# Altium footprint library WE-LHMI_1040.PcbLib: 1 footprints
Each footprint in its own frame and in the unit in brackets; x right, y up, seen from the top. Pads: shape width x height; smd on the part's side, far side on the other; paste and mask are expansions set on the pad; w line width, h text height; cw(c..) or ccw(c..) is an arc to the next point about the centre after c.
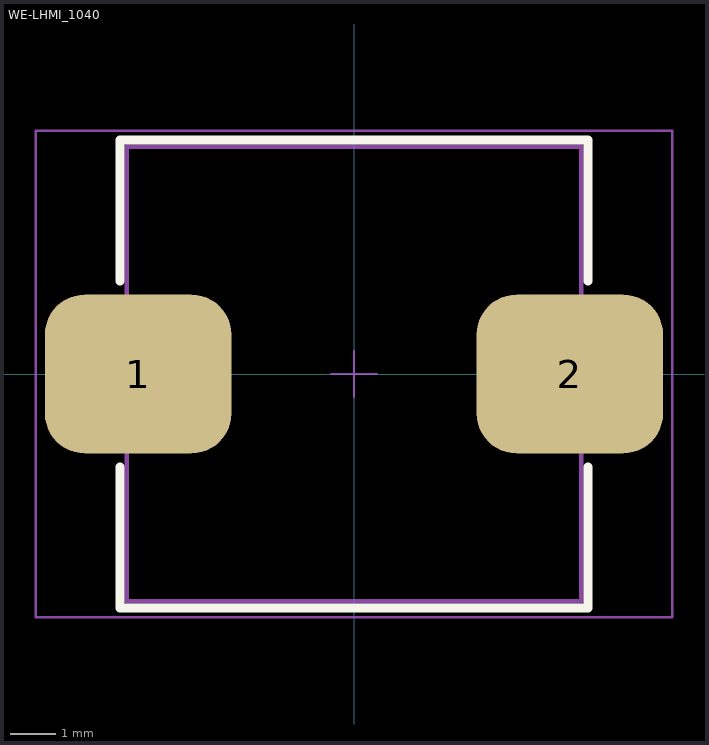
[diagram p0: the footprint, top view; thin cyan lines are the x and y axes]

## WE-LHMI_1040 [mm] "SMT Power Inductor, 2-Leads, body 10x10mm"
height 4
pads (2):
  rrect50% 4.1x3.5 smd: 1(-4.75,0) 2(4.75,0)
Top Overlay:
  lines w0.2: -5.15,-2.05 -5.15,-5.15 5.15,-5.15 5.15,-2.05 ; -5.15,2.05 -5.15,5.15 5.15,5.15 5.15,2.05
Top Assembly:
  lines w0.1: -5,-5 5,-5 5,5 -5,5 -5,-5
Top Courtyard:
  lines w0.05: -0.5,0 0.5,0 ; 0,-0.5 0,0.5 ; -7,-5.35 7,-5.35 7,5.35 -7,5.35 -7,-5.35
3D body "STEP-WE-LHMI-1040-rev1.stp": height 3.82, standoff 0.02, extent -5.5,-5 5.5,5